# Altium footprint library zxevo.PcbLib: 77 footprints (part 5 of 5)
Each footprint in its own frame and in the unit in brackets; x right, y up, seen from the top. Pads: shape width x height; smd on the part's side, far side on the other; paste and mask are expansions set on the pad; w line width, h text height; cw(c..) or ccw(c..) is an arc to the next point about the centre after c.
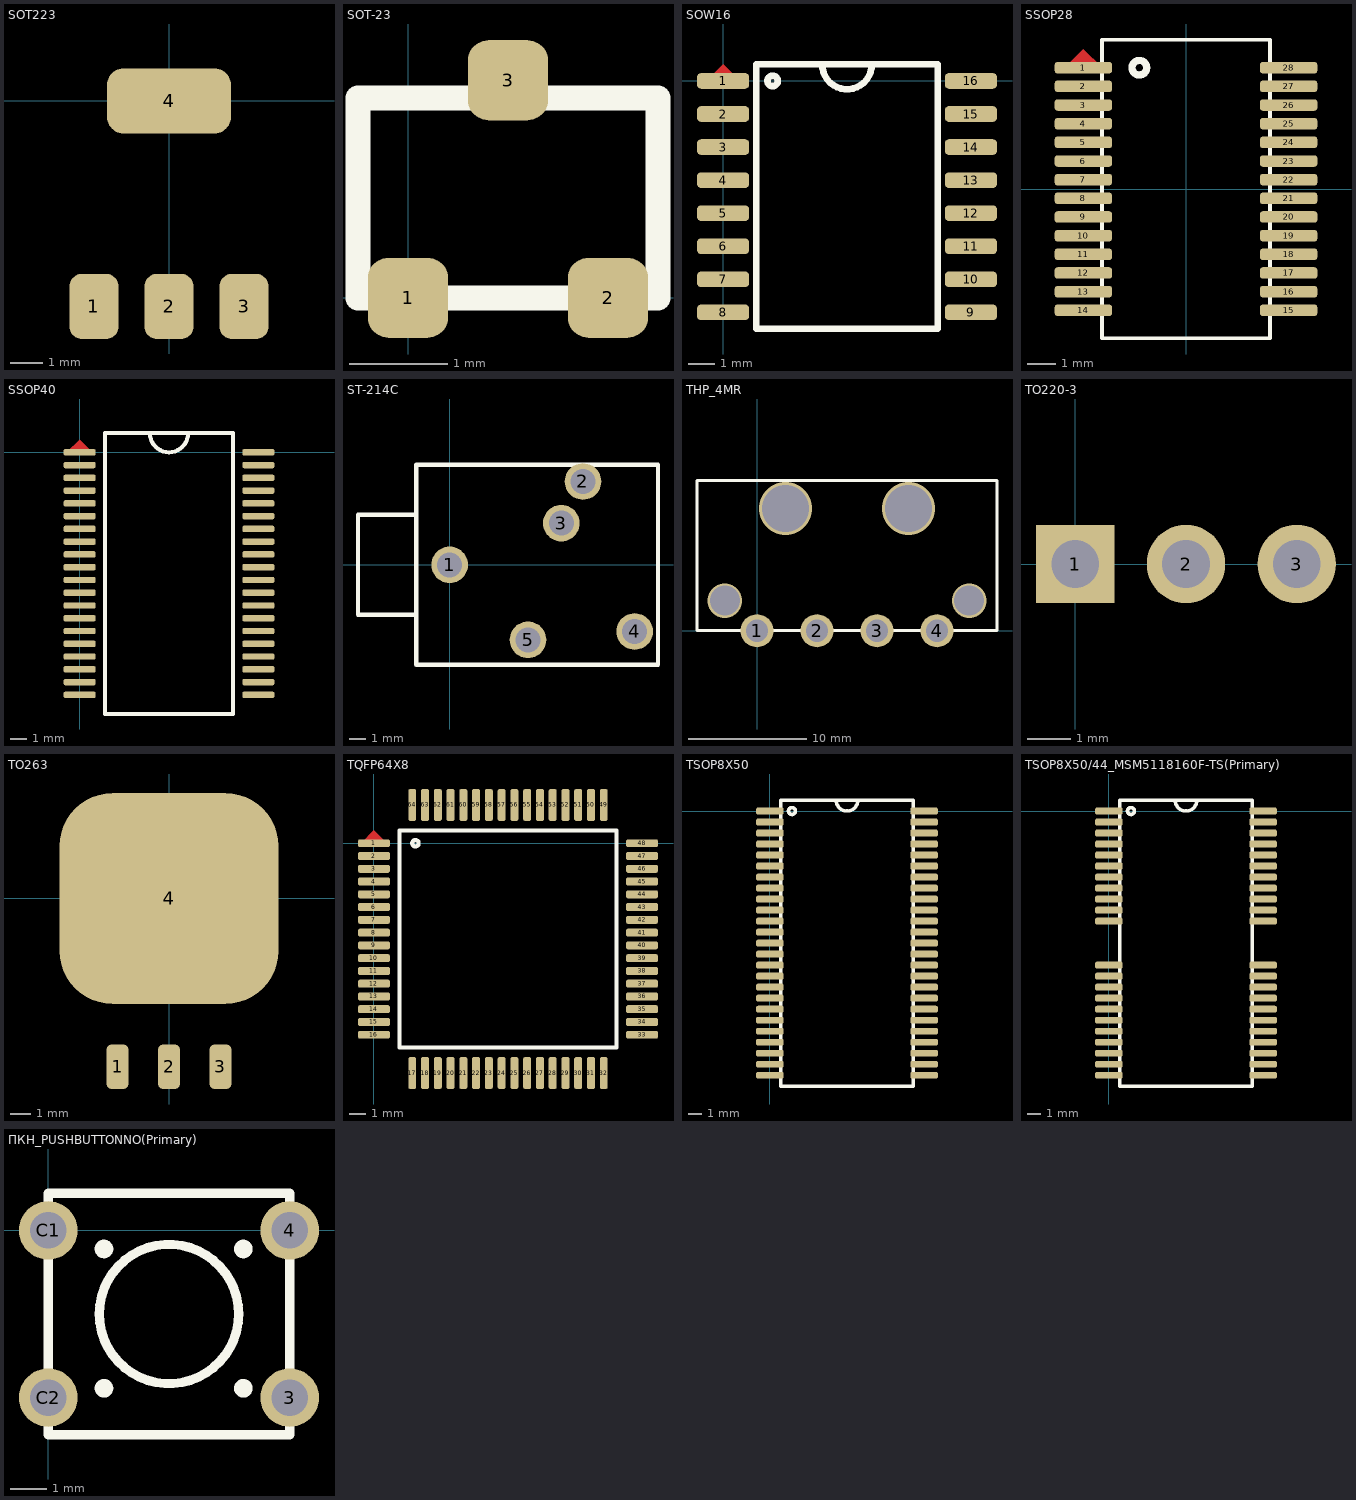
[diagram p4: the footprints below, top view; thin cyan lines are the x and y axes]

## SOT223 [mm]
pads (4):
  rrect50% 1.5x2 smd: 1(-2.3,-6.3) 2(0,-6.3) 3(2.3,-6.3)
  rrect50% 3.8x2 smd: 4(0,0)

## SOT-23 [mil]
pads (3):
  rrect50% 32x32 smd: 1(0,0) 2(80,0) 3(40,87)
Top Overlay:
  lines w10: -20,0 -20,80 100,80 100,0 -20,0

## SOW16 [mm]
pads (16):
  rrect50% 2x0.6 smd: 1(0,0) 2(0,-1.27) 3(0,-2.54) 4(0,-3.81) 5(0,-5.08) 6(0,-6.35) 7(0,-7.62) 8(0,-8.89) 9(9.525,-8.89) 10(9.525,-7.62) 11(9.525,-6.35) 12(9.525,-5.08) 13(9.525,-3.81) 14(9.525,-2.54) 15(9.525,-1.27) 16(9.525,0)
Top Layer:
  region: -0.635,0 0.635,0 0,0.635
Top Overlay:
  circle w0.254: c1.905,0 r0.2
  lines w0.254: 3.81,0.635 ccw(c4.763,0.635) 5.715,0.635 ; 1.27,-9.525 1.27,0.635 8.255,0.635 8.255,-9.525 1.27,-9.525

## SSOP28 [mm]
pads (28):
  rrect50% 2x0.4 smd: 1(-3.575,4.225) 2(-3.575,3.575) 3(-3.575,2.925) 4(-3.575,2.275) 5(-3.575,1.625) 6(-3.575,0.975) 7(-3.575,0.325) 8(-3.575,-0.325) 9(-3.575,-0.975) 10(-3.575,-1.625) 11(-3.575,-2.275) 12(-3.575,-2.925) 13(-3.575,-3.575) 14(-3.575,-4.225) 15(3.575,-4.225) 16(3.575,-3.575) 17(3.575,-2.925) 18(3.575,-2.275) 19(3.575,-1.625) 20(3.575,-0.975) 21(3.575,-0.325) 22(3.575,0.325) 23(3.575,0.975) 24(3.575,1.625) 25(3.575,2.275) 26(3.575,2.925) 27(3.575,3.575) 28(3.575,4.225)
Top Layer:
  region: -2.925,4.225 -3.575,4.875 -4.225,4.225
Top Overlay:
  circle w0.254: c-1.625,4.225 r0.254
  lines w0.127: -2.925,-5.2 2.925,-5.2 2.925,5.2 -2.925,5.2 -2.925,-5.2

## SSOP40 [mm]
pads (40):
  rrect50% 2x0.4 smd: 1(0,0) 2(0,-0.8) 3(0,-1.6) 4(0,-2.4) 5(0,-3.2) 6(0,-4) 7(0,-4.8) 8(0,-5.6) 9(0,-6.4) 10(0,-7.2) 11(0,-8) 12(0,-8.8) 13(0,-9.6) 14(0,-10.4) 15(0,-11.2) 16(0,-12) 17(0,-12.8) 18(0,-13.6) 19(0,-14.4) 20(0,-15.2) 21(11.2,-15.2) 22(11.2,-14.4) 23(11.2,-13.6) 24(11.2,-12.8) 25(11.2,-12) 26(11.2,-11.2) 27(11.2,-10.4) 28(11.2,-9.6) 29(11.2,-8.8) 30(11.2,-8) 31(11.2,-7.2) 32(11.2,-6.4) 33(11.2,-5.6) 34(11.2,-4.8) 35(11.2,-4) 36(11.2,-3.2) 37(11.2,-2.4) 38(11.2,-1.6) 39(11.2,-0.8) 40(11.2,0)
Top Layer:
  region: 0.8,0 0,0.8 -0.8,0
Top Overlay:
  lines w0.254: 4.4,1.2 ccw(c5.6,1.2) 6.8,1.2 ; 1.6,-16.4 1.6,1.2 9.6,1.2 9.6,-16.4 1.6,-16.4

## ST-214C [mm]
pads (5):
  round 2.2 hole 1.5: 1(0,0) 2(8,5) 3(6.7,2.5) 4(11.1,-4) 5(4.7,-4.5)
Top Overlay:
  lines w0.254: -2,-3 -5.5,-3 -5.5,3 -2,3 ; -2,-6 -2,0 -2,6 12.5,6 12.5,-6 -2,-6

## THP_4MR [mm]
pads (4):
  round 2.8 hole 1.9: 1(0,0) 2(5.08,0) 3(10.16,0) 4(15.24,0)
via 2.42,10.34 diameter 4.5 hole 4
via -2.73,2.54 diameter 2.9 hole 2.54
via 17.97,2.54 diameter 2.9 hole 2.54
via 12.82,10.34 diameter 4.5 hole 4
Top Overlay:
  lines w0.254: -5.08,0 -5.08,12.7 20.32,12.7 20.32,0 -5.08,0

## TO220-3 [mm]
pads (3):
  rect 1.8x1.8 hole 1.1: 1(0,0)
  round 1.8 hole 1.1: 2(2.54,0) 3(5.08,0)

## TO263 [mm]
pads (4):
  rrect50% 1.1x2.2 smd: 1(-2.54,-8.3) 2(0,-8.3) 3(2.54,-8.3)
  rrect50% 10.8x10.4 smd: 4(0,0)

## TQFP64X8 [mm]
pads (64):
  rrect50% 2x0.5 smd: 1(0,0) 2(0,-0.8) 3(0,-1.6) 4(0,-2.4) 5(0,-3.2) 6(0,-4) 7(0,-4.8) 8(0,-5.6) 9(0,-6.4) 10(0,-7.2) 11(0,-8) 12(0,-8.8) 13(0,-9.6) 14(0,-10.4) 15(0,-11.2) 16(0,-12) 33(16.8,-12) 34(16.8,-11.2) 35(16.8,-10.4) 36(16.8,-9.6) 37(16.8,-8.8) 38(16.8,-8) 39(16.8,-7.2) 40(16.8,-6.4) 41(16.8,-5.6) 42(16.8,-4.8) 43(16.8,-4) 44(16.8,-3.2) 45(16.8,-2.4) 46(16.8,-1.6) 47(16.8,-0.8) 48(16.8,0)
  rrect50% 0.5x2 smd: 17(2.4,-14.4) 18(3.2,-14.4) 19(4,-14.4) 20(4.8,-14.4) 21(5.6,-14.4) 22(6.4,-14.4) 23(7.2,-14.4) 24(8,-14.4) 25(8.8,-14.4) 26(9.6,-14.4) 27(10.4,-14.4) 28(11.2,-14.4) 29(12,-14.4) 30(12.8,-14.4) 31(13.6,-14.4) 32(14.4,-14.4) 49(14.4,2.4) 50(13.6,2.4) 51(12.8,2.4) 52(12,2.4) 53(11.2,2.4) 54(10.4,2.4) 55(9.6,2.4) 56(8.8,2.4) 57(8,2.4) 58(7.2,2.4) 59(6.4,2.4) 60(5.6,2.4) 61(4.8,2.4) 62(4,2.4) 63(3.2,2.4) 64(2.4,2.4)
Top Layer:
  region: 0.8,0 0,0.8 -0.8,0
Top Overlay:
  circle w0.254: c2.6,0 r0.2
  lines w0.254: 1.6,-12.8 1.6,0.8 15.2,0.8 15.2,-12.8 1.6,-12.8

## TSOP8X50 [mm]
pads (50):
  rrect50% 2x0.5 smd: 1(0,0) 2(0,-0.8) 3(0,-1.6) 4(0,-2.4) 5(0,-3.2) 6(0,-4) 7(0,-4.8) 8(0,-5.6) 9(0,-6.4) 10(0,-7.2) 11(0,-8) 12(0,-8.8) 13(0,-9.6) 14(0,-10.4) 15(0,-11.2) 16(0,-12) 17(0,-12.8) 18(0,-13.6) 19(0,-14.4) 20(0,-15.2) 21(0,-16) 22(0,-16.8) 23(0,-17.6) 24(0,-18.4) 25(0,-19.2) 26(11.2,-19.2) 27(11.2,-18.4) 28(11.2,-17.6) 29(11.2,-16.8) 30(11.2,-16) 31(11.2,-15.2) 32(11.2,-14.4) 33(11.2,-13.6) 34(11.2,-12.8) 35(11.2,-12) 36(11.2,-11.2) 37(11.2,-10.4) 38(11.2,-9.6) 39(11.2,-8.8) 40(11.2,-8) 41(11.2,-7.2) 42(11.2,-6.4) 43(11.2,-5.6) 44(11.2,-4.8) 45(11.2,-4) 46(11.2,-3.2) 47(11.2,-2.4) 48(11.2,-1.6) 49(11.2,-0.8) 50(11.2,0)
Top Overlay:
  circle w0.254: c1.6,0 r0.254
  lines w0.254: 4.8,0.8 ccw(c5.6,0.8) 6.4,0.8 ; 0.8,-20 0.8,0.8 10.4,0.8 10.4,-20 0.8,-20

## TSOP8X50/44_MSM5118160F-TS(Primary) [mm]
pads (44):
  rrect50% 2x0.5 smd: 1(0,0) 2(0,-0.8) 3(0,-1.6) 4(0,-2.4) 5(0,-3.2) 6(0,-4) 7(0,-4.8) 8(0,-5.6) 9(0,-6.4) 10(0,-7.2) 11(0,-11.2) 11(0,-8) 12(0,-12) 13(0,-12.8) 14(0,-13.6) 15(0,-14.4) 16(0,-15.2) 17(0,-16) 18(0,-16.8) 19(0,-17.6) 20(0,-18.4) 21(0,-19.2) 22(11.2,-19.2) 23(11.2,-18.4) 24(11.2,-17.6) 25(11.2,-16.8) 26(11.2,-16) 27(11.2,-15.2) 28(11.2,-14.4) 29(11.2,-13.6) 30(11.2,-12.8) 31(11.2,-12) 32(11.2,-8) 33(11.2,-11.2) 33(11.2,-7.2) 34(11.2,-6.4) 35(11.2,-5.6) 36(11.2,-4.8) 37(11.2,-4) 38(11.2,-3.2) 39(11.2,-2.4) 40(11.2,-1.6) 41(11.2,-0.8) 42(11.2,0)
Top Overlay:
  circle w0.254: c1.6,0 r0.254
  lines w0.254: 4.8,0.8 ccw(c5.6,0.8) 6.4,0.8 ; 0.8,-20 0.8,0.8 10.4,0.8 10.4,-20 0.8,-20

## ПКН_PUSHBUTTONNO(Primary) [mm]
pads (4):
  round 1.6 hole 1: 3(6.604,-4.572) 4(6.604,0) C1(0,0) C2(0,-4.572)
Top Overlay:
  circle w0.254: c1.524,-4.318 r0.127
  circle w0.254: c1.524,-0.508 r0.127
  circle w0.254: c5.334,-0.508 r0.127
  circle w0.254: c5.334,-4.318 r0.127
  circle w0.254: c3.302,-2.286 r1.905
  lines w0.254: 0,-5.588 0,1.016 6.604,1.016 6.604,-5.588 0,-5.588